# Altium integrated library ON Semi Zener Diodes.IntLib: 1366 symbols (part 10 of 29)
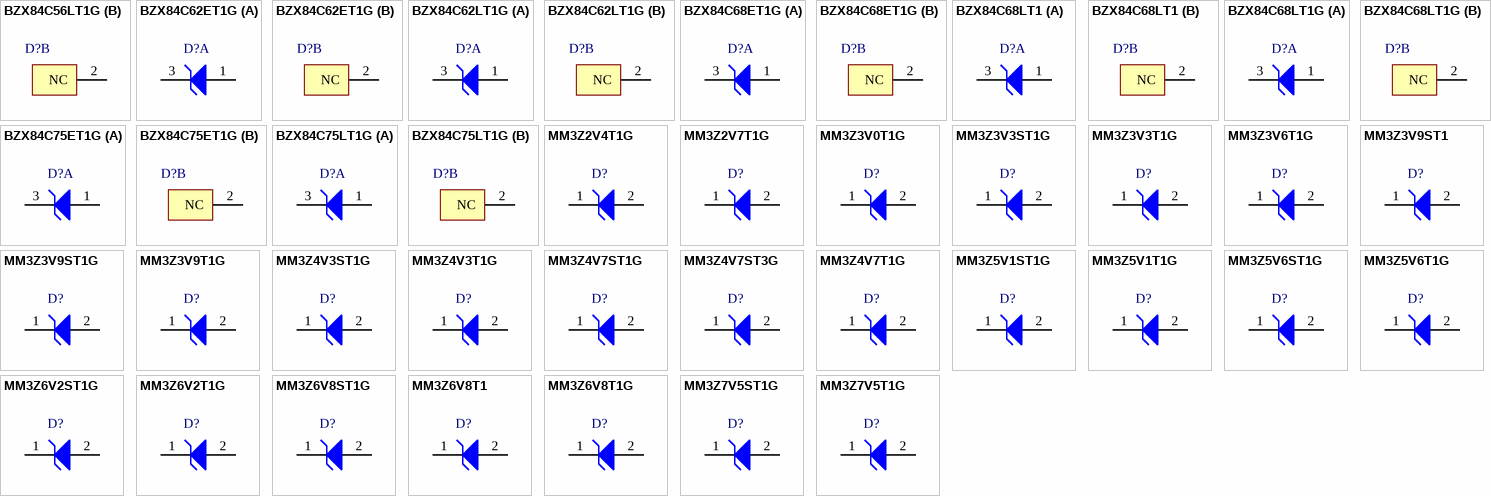
[diagram p53: symbols BZX84C56LT1G to MM3Z7V5T1G]

## MM3Z3V9T1G
designator D?
Zener Voltage Regulator, 300 mW, 2-Pin SOD-323, Pb-Free, Tape and Reel; Manufacturer: On Semiconductor; PartNumber: MM3Z3V9T1G; P Max (W): 0.3; VZ Typ (V): 3.9; DatasheetVersion: Rev. 9; PackageVersion: Rev. H, 03/2007; PackageReference: SOD-323-2-477-02; PackageDescription: 2-Pin SOD, Body 1.7 x 1.25 mm; Supplier 1: Digi-Key; Supplier Part Number 1: MM3Z3V9T1GOSTR-ND; Supplier 2: Digi-Key; Supplier Part Number 2: MM3Z3V9T1GOSCT-ND; Supplier 3: Digi-Key; Supplier Part Number 3: MM3Z3V9T1GOSDKR-ND; Supplier 4: Farnell; Supplier Part Number 4: 1431200; Supplier 5: Farnell; Supplier Part Number 5: 1431200RL; Supplier 6: Newark; Supplier Part Number 6: 67H6874; Supplier 7: Mouser; Supplier Part Number 7: 863-MM3Z3V9T1G; Packing: Tape and Reel; RoHS: Pb-Free; Mounting Technology: Surface Mount; ComponentLink1Description: Manufacturer URL; ComponentLink1URL: http://www.onsemi.com/; ComponentLink2Description: Datasheet; ComponentLink2URL: http://www.onsemi.cn/pub_link/Collateral/MM3Z2V4T1-D.PDF; ComponentLink3Description: Package Specification; ComponentLink3URL: http://www.onsemi.com/pub_link/Collateral/477-02.PDF.1
footprint ONSC-SOD-323-2-477-02_V (SOD, 2-Leads, Body 1.7x1.25mm)
pins: 1 K, 2 A

## MM3Z4V3ST1G
designator D?
Zener Voltage Regulator, 300 mW, Tight Tolerance Portfolio, 2-Pin SOD-323, Pb-Free, Tape and Reel; Manufacturer: On Semiconductor; PartNumber: MM3Z4V3ST1G; P Max (W): 0.3; DatasheetVersion: Rev. 21; PackageVersion: Rev. H, 03/2007; PackageReference: SOD-323-2-477-02; PackageDescription: 2-Pin SOD, Body 1.7 x 1.25 mm; Supplier 1: Digi-Key; Supplier Part Number 1: MM3Z4V3ST1GOSTR-ND; Supplier 2: Digi-Key; Supplier Part Number 2: MM3Z4V3ST1GOSCT-ND; Supplier 3: Digi-Key; Supplier Part Number 3: MM3Z4V3ST1GOSDKR-ND; Supplier 4: Newark; Supplier Part Number 4: 98H0839; Supplier 5: Mouser; Supplier Part Number 5: 863-MM3Z4V3ST1G; Packing: Tape and Reel; RoHS: Pb-Free; Mounting Technology: Surface Mount; ComponentLink1Description: Manufacturer URL; ComponentLink1URL: http://www.onsemi.com/; ComponentLink2Description: Datasheet; ComponentLink2URL: http://www.onsemi.cn/pub_link/Collateral/MM3Z2V4ST1-D.PDF; ComponentLink3Description: Package Specification; ComponentLink3URL: http://www.onsemi.com/pub_link/Collateral/477-02.PDF.1
footprint ONSC-SOD-323-2-477-02_V (SOD, 2-Leads, Body 1.7x1.25mm)
pins: 1 K, 2 A

## MM3Z4V3T1G
designator D?
Zener Voltage Regulator, 300 mW, 2-Pin SOD-323, Pb-Free, Tape and Reel; Manufacturer: On Semiconductor; PartNumber: MM3Z4V3T1G; P Max (W): 0.3; VZ Typ (V): 4.3; DatasheetVersion: Rev. 9; PackageVersion: Rev. H, 03/2007; PackageReference: SOD-323-2-477-02; PackageDescription: 2-Pin SOD, Body 1.7 x 1.25 mm; Supplier 1: Digi-Key; Supplier Part Number 1: MM3Z4V3T1GOSTR-ND; Supplier 2: Digi-Key; Supplier Part Number 2: MM3Z4V3T1GOSCT-ND; Supplier 3: Digi-Key; Supplier Part Number 3: MM3Z4V3T1GOSDKR-ND; Supplier 4: Farnell; Supplier Part Number 4: 2317754; Supplier 5: Farnell; Supplier Part Number 5: 1155495; Supplier 6: Newark; Supplier Part Number 6: 67H6875; Supplier 7: Newark; Supplier Part Number 7: 85W2828; Supplier 8: Mouser; Supplier Part Number 8: 863-MM3Z4V3T1G; Packing: Tape and Reel; RoHS: Pb-Free; Mounting Technology: Surface Mount; ComponentLink1Description: Manufacturer URL; ComponentLink1URL: http://www.onsemi.com/; ComponentLink2Description: Datasheet; ComponentLink2URL: http://www.onsemi.cn/pub_link/Collateral/MM3Z2V4T1-D.PDF; ComponentLink3Description: Package Specification; ComponentLink3URL: http://www.onsemi.com/pub_link/Collateral/477-02.PDF.1
footprint ONSC-SOD-323-2-477-02_V (SOD, 2-Leads, Body 1.7x1.25mm)
pins: 1 K, 2 A

## MM3Z4V7ST1G
designator D?
Zener Voltage Regulator, 300 mW, Tight Tolerance Portfolio, 2-Pin SOD-323, Pb-Free, Tape and Reel; Manufacturer: On Semiconductor; PartNumber: MM3Z4V7ST1G; P Max (W): 0.3; DatasheetVersion: Rev. 21; PackageVersion: Rev. H, 03/2007; PackageReference: SOD-323-2-477-02; PackageDescription: 2-Pin SOD, Body 1.7 x 1.25 mm; Supplier 1: Digi-Key; Supplier Part Number 1: MM3Z4V7ST1GOSTR-ND; Supplier 2: Digi-Key; Supplier Part Number 2: MM3Z4V7ST1GOSCT-ND; Supplier 3: Digi-Key; Supplier Part Number 3: MM3Z4V7ST1GOSDKR-ND; Supplier 4: Newark; Supplier Part Number 4: 10N9523; Supplier 5: Mouser; Supplier Part Number 5: 863-MM3Z4V7ST1G; Packing: Tape and Reel; RoHS: Pb-Free; Mounting Technology: Surface Mount; ComponentLink1Description: Manufacturer URL; ComponentLink1URL: http://www.onsemi.com/; ComponentLink2Description: Datasheet; ComponentLink2URL: http://www.onsemi.cn/pub_link/Collateral/MM3Z2V4ST1-D.PDF; ComponentLink3Description: Package Specification; ComponentLink3URL: http://www.onsemi.com/pub_link/Collateral/477-02.PDF.1
footprint ONSC-SOD-323-2-477-02_V (SOD, 2-Leads, Body 1.7x1.25mm)
pins: 1 K, 2 A

## MM3Z4V7ST3G
designator D?
Zener Voltage Regulator, 300 mW, Tight Tolerance Portfolio, 2-Pin SOD-323, Pb-Free, Tape and Reel; Manufacturer: On Semiconductor; PartNumber: MM3Z4V7ST3G; P Max (W): 0.3; DatasheetVersion: Rev. 21; PackageVersion: Rev. H, 03/2007; PackageReference: SOD-323-2-477-02; PackageDescription: 2-Pin SOD, Body 1.7 x 1.25 mm; Supplier 1: Digi-Key; Supplier Part Number 1: MM3Z4V7ST3G-ND; Supplier 2: Mouser; Supplier Part Number 2: 863-MM3Z4V7ST3G; Packing: Tape and Reel; RoHS: Pb-Free; Mounting Technology: Surface Mount; ComponentLink1Description: Manufacturer URL; ComponentLink1URL: http://www.onsemi.com/; ComponentLink2Description: Datasheet; ComponentLink2URL: http://www.onsemi.cn/pub_link/Collateral/MM3Z2V4ST1-D.PDF; ComponentLink3Description: Package Specification; ComponentLink3URL: http://www.onsemi.com/pub_link/Collateral/477-02.PDF.1
footprint ONSC-SOD-323-2-477-02_V (SOD, 2-Leads, Body 1.7x1.25mm)
pins: 1 K, 2 A

## MM3Z4V7T1G
designator D?
Zener Voltage Regulator, 300 mW, 2-Pin SOD-323, Pb-Free, Tape and Reel; Manufacturer: On Semiconductor; PartNumber: MM3Z4V7T1G; P Max (W): 0.3; VZ Typ (V): 4.7; DatasheetVersion: Rev. 9; PackageVersion: Rev. H, 03/2007; PackageReference: SOD-323-2-477-02; PackageDescription: 2-Pin SOD, Body 1.7 x 1.25 mm; Supplier 1: Digi-Key; Supplier Part Number 1: MM3Z4V7T1GOSTR-ND; Supplier 2: Digi-Key; Supplier Part Number 2: MM3Z4V7T1GOSCT-ND; Supplier 3: Digi-Key; Supplier Part Number 3: MM3Z4V7T1GOSDKR-ND; Supplier 4: Farnell; Supplier Part Number 4: 1431202; Supplier 5: Farnell; Supplier Part Number 5: 1431202RL; Supplier 6: Farnell; Supplier Part Number 6: 2317740; Supplier 7: Newark; Supplier Part Number 7: 67H6877; Supplier 8: Newark; Supplier Part Number 8: 85W2829; Supplier 9: Mouser; Supplier Part Number 9: 863-MM3Z4V7T1G; Packing: Tape and Reel; RoHS: Pb-Free; Mounting Technology: Surface Mount; ComponentLink1Description: Manufacturer URL; ComponentLink1URL: http://www.onsemi.com/; ComponentLink2Description: Datasheet; ComponentLink2URL: http://www.onsemi.cn/pub_link/Collateral/MM3Z2V4T1-D.PDF; ComponentLink3Description: Package Specification; ComponentLink3URL: http://www.onsemi.com/pub_link/Collateral/477-02.PDF.1
footprint ONSC-SOD-323-2-477-02_V (SOD, 2-Leads, Body 1.7x1.25mm)
pins: 1 K, 2 A

## MM3Z5V1ST1G
designator D?
Zener Voltage Regulator, 300 mW, Tight Tolerance Portfolio, 2-Pin SOD-323, Pb-Free, Tape and Reel; Manufacturer: On Semiconductor; PartNumber: MM3Z5V1ST1G; P Max (W): 0.3; DatasheetVersion: Rev. 21; PackageVersion: Rev. H, 03/2007; PackageReference: SOD-323-2-477-02; PackageDescription: 2-Pin SOD, Body 1.7 x 1.25 mm; Supplier 1: Digi-Key; Supplier Part Number 1: MM3Z5V1ST1GOSTR-ND; Supplier 2: Digi-Key; Supplier Part Number 2: MM3Z5V1ST1GOSCT-ND; Supplier 3: Digi-Key; Supplier Part Number 3: MM3Z5V1ST1GOSDKR-ND; Supplier 4: Farnell; Supplier Part Number 4: 2317757; Supplier 5: Farnell; Supplier Part Number 5: 2317476; Supplier 6: Newark; Supplier Part Number 6: 10N9524; Supplier 7: Newark; Supplier Part Number 7: 67H6878; Supplier 8: Mouser; Supplier Part Number 8: 863-MM3Z5V1ST1G; Packing: Tape and Reel; RoHS: Pb-Free; Mounting Technology: Surface Mount; ComponentLink1Description: Manufacturer URL; ComponentLink1URL: http://www.onsemi.com/; ComponentLink2Description: Datasheet; ComponentLink2URL: http://www.onsemi.cn/pub_link/Collateral/MM3Z2V4ST1-D.PDF; ComponentLink3Description: Package Specification; ComponentLink3URL: http://www.onsemi.com/pub_link/Collateral/477-02.PDF.1
footprint ONSC-SOD-323-2-477-02_V (SOD, 2-Leads, Body 1.7x1.25mm)
pins: 1 K, 2 A

## MM3Z5V1T1G
designator D?
Zener Voltage Regulator, 300 mW, 2-Pin SOD-323, Pb-Free, Tape and Reel; Manufacturer: On Semiconductor; PartNumber: MM3Z5V1T1G; P Max (W): 0.3; VZ Typ (V): 5.1; DatasheetVersion: Rev. 9; PackageVersion: Rev. H, 03/2007; PackageReference: SOD-323-2-477-02; PackageDescription: 2-Pin SOD, Body 1.7 x 1.25 mm; Supplier 1: Digi-Key; Supplier Part Number 1: MM3Z5V1T1GOSTR-ND; Supplier 2: Digi-Key; Supplier Part Number 2: MM3Z5V1T1GOSCT-ND; Supplier 3: Digi-Key; Supplier Part Number 3: MM3Z5V1T1GOSDKR-ND; Supplier 4: Farnell; Supplier Part Number 4: 1431203; Supplier 5: Farnell; Supplier Part Number 5: 2317719; Supplier 6: Farnell; Supplier Part Number 6: 1431203RL; Supplier 7: Newark; Supplier Part Number 7: 67H6879; Supplier 8: Newark; Supplier Part Number 8: 85W2830; Supplier 9: Mouser; Supplier Part Number 9: 863-MM3Z5V1T1G; Packing: Tape and Reel; RoHS: Pb-Free; Mounting Technology: Surface Mount; ComponentLink1Description: Manufacturer URL; ComponentLink1URL: http://www.onsemi.com/; ComponentLink2Description: Datasheet; ComponentLink2URL: http://www.onsemi.cn/pub_link/Collateral/MM3Z2V4T1-D.PDF; ComponentLink3Description: Package Specification; ComponentLink3URL: http://www.onsemi.com/pub_link/Collateral/477-02.PDF.1
footprint ONSC-SOD-323-2-477-02_V (SOD, 2-Leads, Body 1.7x1.25mm)
pins: 1 K, 2 A

## MM3Z5V6ST1G
designator D?
Zener Voltage Regulator, 300 mW, Tight Tolerance Portfolio, 2-Pin SOD-323, Pb-Free, Tape and Reel; Manufacturer: On Semiconductor; PartNumber: MM3Z5V6ST1G; P Max (W): 0.3; DatasheetVersion: Rev. 21; PackageVersion: Rev. H, 03/2007; PackageReference: SOD-323-2-477-02; PackageDescription: 2-Pin SOD, Body 1.7 x 1.25 mm; Supplier 1: Digi-Key; Supplier Part Number 1: MM3Z5V6ST1GOSTR-ND; Supplier 2: Digi-Key; Supplier Part Number 2: MM3Z5V6ST1GOSCT-ND; Supplier 3: Digi-Key; Supplier Part Number 3: MM3Z5V6ST1GOSDKR-ND; Supplier 4: Farnell; Supplier Part Number 4: 2317738; Supplier 5: Newark; Supplier Part Number 5: 67H6880; Supplier 6: Newark; Supplier Part Number 6: 94W9058; Supplier 7: Newark; Supplier Part Number 7: 10N9525; Supplier 8: Mouser; Supplier Part Number 8: 863-MM3Z5V6ST1G; Packing: Tape and Reel; RoHS: Pb-Free; Mounting Technology: Surface Mount; ComponentLink1Description: Manufacturer URL; ComponentLink1URL: http://www.onsemi.com/; ComponentLink2Description: Datasheet; ComponentLink2URL: http://www.onsemi.cn/pub_link/Collateral/MM3Z2V4ST1-D.PDF; ComponentLink3Description: Package Specification; ComponentLink3URL: http://www.onsemi.com/pub_link/Collateral/477-02.PDF.1
footprint ONSC-SOD-323-2-477-02_V (SOD, 2-Leads, Body 1.7x1.25mm)
pins: 1 K, 2 A

## MM3Z5V6T1G
designator D?
Zener Voltage Regulator, 300 mW, 2-Pin SOD-323, Pb-Free, Tape and Reel; Manufacturer: On Semiconductor; PartNumber: MM3Z5V6T1G; P Max (W): 0.3; VZ Typ (V): 5.6; DatasheetVersion: Rev. 9; PackageVersion: Rev. H, 03/2007; PackageReference: SOD-323-2-477-02; PackageDescription: 2-Pin SOD, Body 1.7 x 1.25 mm; Supplier 1: Digi-Key; Supplier Part Number 1: MM3Z5V6T1GOSTR-ND; Supplier 2: Digi-Key; Supplier Part Number 2: MM3Z5V6T1GOSCT-ND; Supplier 3: Digi-Key; Supplier Part Number 3: MM3Z5V6T1GOSDKR-ND; Supplier 4: Farnell; Supplier Part Number 4: 1431204RL; Supplier 5: Farnell; Supplier Part Number 5: 1431204; Supplier 6: Farnell; Supplier Part Number 6: 2317724; Supplier 7: Newark; Supplier Part Number 7: 83H7525; Supplier 8: Newark; Supplier Part Number 8: 85W2831; Supplier 9: Mouser; Supplier Part Number 9: 863-MM3Z5V6T1G; Packing: Tape and Reel; RoHS: Pb-Free; Mounting Technology: Surface Mount; ComponentLink1Description: Manufacturer URL; ComponentLink1URL: http://www.onsemi.com/; ComponentLink2Description: Datasheet; ComponentLink2URL: http://www.onsemi.cn/pub_link/Collateral/MM3Z2V4T1-D.PDF; ComponentLink3Description: Package Specification; ComponentLink3URL: http://www.onsemi.com/pub_link/Collateral/477-02.PDF.1
footprint ONSC-SOD-323-2-477-02_V (SOD, 2-Leads, Body 1.7x1.25mm)
pins: 1 K, 2 A

## MM3Z6V2ST1G
designator D?
Zener Voltage Regulator, 300 mW, Tight Tolerance Portfolio, 2-Pin SOD-323, Pb-Free, Tape and Reel; Manufacturer: On Semiconductor; PartNumber: MM3Z6V2ST1G; P Max (W): 0.3; DatasheetVersion: Rev. 21; PackageVersion: Rev. H, 03/2007; PackageReference: SOD-323-2-477-02; PackageDescription: 2-Pin SOD, Body 1.7 x 1.25 mm; Supplier 1: Digi-Key; Supplier Part Number 1: MM3Z6V2ST1GOSTR-ND; Supplier 2: Digi-Key; Supplier Part Number 2: MM3Z6V2ST1GOSCT-ND; Supplier 3: Digi-Key; Supplier Part Number 3: MM3Z6V2ST1GOSDKR-ND; Supplier 4: Farnell; Supplier Part Number 4: 2317455; Supplier 5: Farnell; Supplier Part Number 5: 2317742; Supplier 6: Newark; Supplier Part Number 6: 67H6881; Supplier 7: Newark; Supplier Part Number 7: 09R9508; Supplier 8: Mouser; Supplier Part Number 8: 863-MM3Z6V2ST1G; Packing: Tape and Reel; RoHS: Pb-Free; Mounting Technology: Surface Mount; ComponentLink1Description: Manufacturer URL; ComponentLink1URL: http://www.onsemi.com/; ComponentLink2Description: Datasheet; ComponentLink2URL: http://www.onsemi.cn/pub_link/Collateral/MM3Z2V4ST1-D.PDF; ComponentLink3Description: Package Specification; ComponentLink3URL: http://www.onsemi.com/pub_link/Collateral/477-02.PDF.1
footprint ONSC-SOD-323-2-477-02_V (SOD, 2-Leads, Body 1.7x1.25mm)
pins: 1 K, 2 A

## MM3Z6V2T1G
designator D?
Zener Voltage Regulator, 300 mW, 2-Pin SOD-323, Pb-Free, Tape and Reel; Manufacturer: On Semiconductor; PartNumber: MM3Z6V2T1G; P Max (W): 0.3; VZ Typ (V): 6.2; DatasheetVersion: Rev. 9; PackageVersion: Rev. H, 03/2007; PackageReference: SOD-323-2-477-02; PackageDescription: 2-Pin SOD, Body 1.7 x 1.25 mm; Supplier 1: Digi-Key; Supplier Part Number 1: MM3Z6V2T1GOSTR-ND; Supplier 2: Digi-Key; Supplier Part Number 2: MM3Z6V2T1GOSCT-ND; Supplier 3: Digi-Key; Supplier Part Number 3: MM3Z6V2T1GOSDKR-ND; Supplier 4: Farnell; Supplier Part Number 4: 1431205; Supplier 5: Farnell; Supplier Part Number 5: 1431205RL; Supplier 6: Newark; Supplier Part Number 6: 58M9259; Supplier 7: Newark; Supplier Part Number 7: 83H7526; Supplier 8: Mouser; Supplier Part Number 8: 863-MM3Z6V2T1G; Packing: Tape and Reel; RoHS: Pb-Free; Mounting Technology: Surface Mount; ComponentLink1Description: Manufacturer URL; ComponentLink1URL: http://www.onsemi.com/; ComponentLink2Description: Datasheet; ComponentLink2URL: http://www.onsemi.cn/pub_link/Collateral/MM3Z2V4T1-D.PDF; ComponentLink3Description: Package Specification; ComponentLink3URL: http://www.onsemi.com/pub_link/Collateral/477-02.PDF.1
footprint ONSC-SOD-323-2-477-02_V (SOD, 2-Leads, Body 1.7x1.25mm)
pins: 1 K, 2 A

## MM3Z6V8ST1G
designator D?
Zener Voltage Regulator, 300 mW, Tight Tolerance Portfolio, 2-Pin SOD-323, Pb-Free, Tape and Reel; Manufacturer: On Semiconductor; PartNumber: MM3Z6V8ST1G; P Max (W): 0.3; DatasheetVersion: Rev. 21; PackageVersion: Rev. H, 03/2007; PackageReference: SOD-323-2-477-02; PackageDescription: 2-Pin SOD, Body 1.7 x 1.25 mm; Supplier 1: Digi-Key; Supplier Part Number 1: MM3Z6V8ST1GOSTR-ND; Supplier 2: Digi-Key; Supplier Part Number 2: MM3Z6V8ST1GOSCT-ND; Supplier 3: Digi-Key; Supplier Part Number 3: MM3Z6V8ST1GOSDKR-ND; Supplier 4: Newark; Supplier Part Number 4: 10N9526; Supplier 5: Mouser; Supplier Part Number 5: 863-MM3Z6V8ST1G; Packing: Tape and Reel; RoHS: Pb-Free; Mounting Technology: Surface Mount; ComponentLink1Description: Manufacturer URL; ComponentLink1URL: http://www.onsemi.com/; ComponentLink2Description: Datasheet; ComponentLink2URL: http://www.onsemi.cn/pub_link/Collateral/MM3Z2V4ST1-D.PDF; ComponentLink3Description: Package Specification; ComponentLink3URL: http://www.onsemi.com/pub_link/Collateral/477-02.PDF.1
footprint ONSC-SOD-323-2-477-02_V (SOD, 2-Leads, Body 1.7x1.25mm)
pins: 1 K, 2 A

## MM3Z6V8T1
designator D?
Zener Voltage Regulator, 300 mW, 2-Pin SOD-323, Tape and Reel; Manufacturer: On Semiconductor; PartNumber: MM3Z6V8T1; P Max (W): 0.3; VZ Typ (V): 6.8; DatasheetVersion: Rev. 9; PackageVersion: Rev. H, 03/2007; PackageReference: SOD-323-2-477-02; PackageDescription: 2-Pin SOD, Body 1.7 x 1.25 mm; Packing: Tape and Reel; Mounting Technology: Surface Mount; ComponentLink1Description: Manufacturer URL; ComponentLink1URL: http://www.onsemi.com/; ComponentLink2Description: Datasheet; ComponentLink2URL: http://www.onsemi.cn/pub_link/Collateral/MM3Z2V4T1-D.PDF; ComponentLink3Description: Package Specification; ComponentLink3URL: http://www.onsemi.com/pub_link/Collateral/477-02.PDF.1
footprint ONSC-SOD-323-2-477-02_V (SOD, 2-Leads, Body 1.7x1.25mm)
pins: 1 K, 2 A

## MM3Z6V8T1G
designator D?
Zener Voltage Regulator, 300 mW, 2-Pin SOD-323, Pb-Free, Tape and Reel; Manufacturer: On Semiconductor; PartNumber: MM3Z6V8T1G; P Max (W): 0.3; VZ Typ (V): 6.8; DatasheetVersion: Rev. 9; PackageVersion: Rev. H, 03/2007; PackageReference: SOD-323-2-477-02; PackageDescription: 2-Pin SOD, Body 1.7 x 1.25 mm; Supplier 1: Digi-Key; Supplier Part Number 1: MM3Z6V8T1GOSTR-ND; Supplier 2: Digi-Key; Supplier Part Number 2: MM3Z6V8T1GOSCT-ND; Supplier 3: Digi-Key; Supplier Part Number 3: MM3Z6V8T1GOSDKR-ND; Supplier 4: Farnell; Supplier Part Number 4: 1431206; Supplier 5: Farnell; Supplier Part Number 5: 1431206RL; Supplier 6: Newark; Supplier Part Number 6: 67H6883; Supplier 7: Mouser; Supplier Part Number 7: 863-MM3Z6V8T1G; Packing: Tape and Reel; RoHS: Pb-Free; Mounting Technology: Surface Mount; ComponentLink1Description: Manufacturer URL; ComponentLink1URL: http://www.onsemi.com/; ComponentLink2Description: Datasheet; ComponentLink2URL: http://www.onsemi.cn/pub_link/Collateral/MM3Z2V4T1-D.PDF; ComponentLink3Description: Package Specification; ComponentLink3URL: http://www.onsemi.com/pub_link/Collateral/477-02.PDF.1
footprint ONSC-SOD-323-2-477-02_V (SOD, 2-Leads, Body 1.7x1.25mm)
pins: 1 K, 2 A

## MM3Z7V5ST1G
designator D?
Zener Voltage Regulator, 300 mW, Tight Tolerance Portfolio, 2-Pin SOD-323, Pb-Free, Tape and Reel; Manufacturer: On Semiconductor; PartNumber: MM3Z7V5ST1G; P Max (W): 0.3; DatasheetVersion: Rev. 21; PackageVersion: Rev. H, 03/2007; PackageReference: SOD-323-2-477-02; PackageDescription: 2-Pin SOD, Body 1.7 x 1.25 mm; Supplier 1: Digi-Key; Supplier Part Number 1: MM3Z7V5ST1GOSTR-ND; Supplier 2: Digi-Key; Supplier Part Number 2: MM3Z7V5ST1GOSCT-ND; Supplier 3: Digi-Key; Supplier Part Number 3: MM3Z7V5ST1GOSDKR-ND; Supplier 4: Newark; Supplier Part Number 4: 67H6884; Supplier 5: Mouser; Supplier Part Number 5: 863-MM3Z7V5ST1G; Packing: Tape and Reel; RoHS: Pb-Free; Mounting Technology: Surface Mount; ComponentLink1Description: Manufacturer URL; ComponentLink1URL: http://www.onsemi.com/; ComponentLink2Description: Datasheet; ComponentLink2URL: http://www.onsemi.cn/pub_link/Collateral/MM3Z2V4ST1-D.PDF; ComponentLink3Description: Package Specification; ComponentLink3URL: http://www.onsemi.com/pub_link/Collateral/477-02.PDF.1
footprint ONSC-SOD-323-2-477-02_V (SOD, 2-Leads, Body 1.7x1.25mm)
pins: 1 K, 2 A

## MM3Z7V5T1G
designator D?
Zener Voltage Regulator, 300 mW, 2-Pin SOD-323, Pb-Free, Tape and Reel; Manufacturer: On Semiconductor; PartNumber: MM3Z7V5T1G; P Max (W): 0.3; VZ Typ (V): 7.5; DatasheetVersion: Rev. 9; PackageVersion: Rev. H, 03/2007; PackageReference: SOD-323-2-477-02; PackageDescription: 2-Pin SOD, Body 1.7 x 1.25 mm; Supplier 1: Digi-Key; Supplier Part Number 1: MM3Z7V5T1GOSTR-ND; Supplier 2: Digi-Key; Supplier Part Number 2: MM3Z7V5T1GOSCT-ND; Supplier 3: Digi-Key; Supplier Part Number 3: MM3Z7V5T1GOSDKR-ND; Supplier 4: Farnell; Supplier Part Number 4: 1431207RL; Supplier 5: Farnell; Supplier Part Number 5: 1431207; Supplier 6: Newark; Supplier Part Number 6: 09R9509; Supplier 7: Newark; Supplier Part Number 7: 98H0840; Supplier 8: Mouser; Supplier Part Number 8: 863-MM3Z7V5T1G; Packing: Tape and Reel; RoHS: Pb-Free; Mounting Technology: Surface Mount; ComponentLink1Description: Manufacturer URL; ComponentLink1URL: http://www.onsemi.com/; ComponentLink2Description: Datasheet; ComponentLink2URL: http://www.onsemi.cn/pub_link/Collateral/MM3Z2V4T1-D.PDF; ComponentLink3Description: Package Specification; ComponentLink3URL: http://www.onsemi.com/pub_link/Collateral/477-02.PDF.1
footprint ONSC-SOD-323-2-477-02_V (SOD, 2-Leads, Body 1.7x1.25mm)
pins: 1 K, 2 A

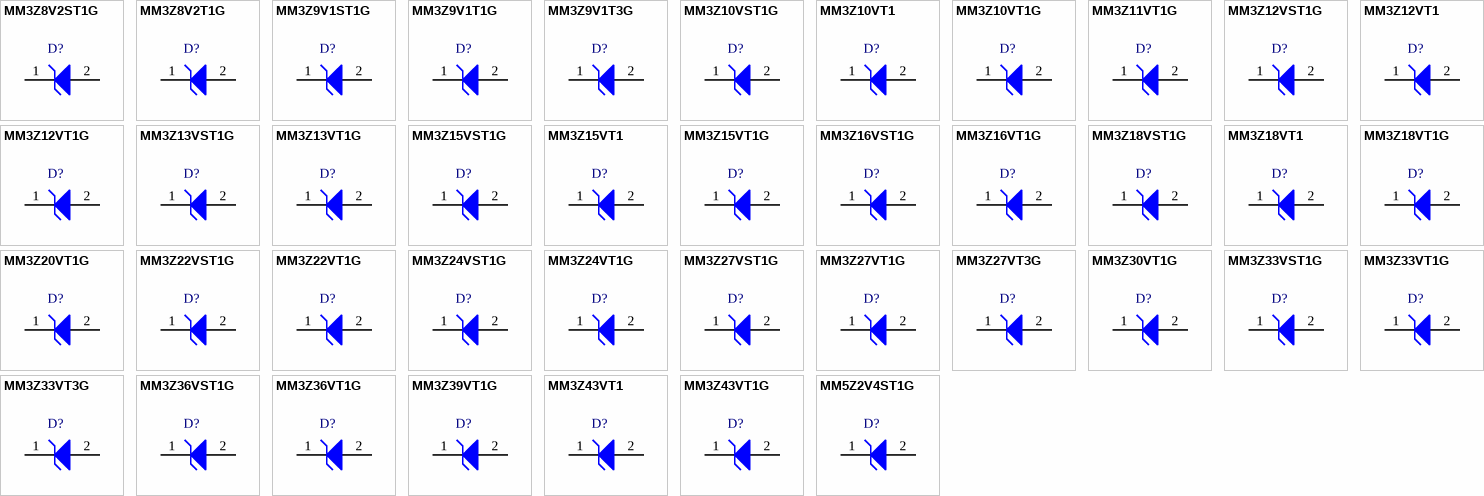
[diagram p14: symbols MM3Z8V2ST1G to MM5Z2V4ST1G]

## MM3Z8V2ST1G
designator D?
Zener Voltage Regulator, 300 mW, Tight Tolerance Portfolio, 2-Pin SOD-323, Pb-Free, Tape and Reel; Manufacturer: On Semiconductor; PartNumber: MM3Z8V2ST1G; P Max (W): 0.3; DatasheetVersion: Rev. 21; PackageVersion: Rev. H, 03/2007; PackageReference: SOD-323-2-477-02; PackageDescription: 2-Pin SOD, Body 1.7 x 1.25 mm; Supplier 1: Digi-Key; Supplier Part Number 1: MM3Z8V2ST1GOSTR-ND; Supplier 2: Digi-Key; Supplier Part Number 2: MM3Z8V2ST1GOSCT-ND; Supplier 3: Digi-Key; Supplier Part Number 3: MM3Z8V2ST1GOSDKR-ND; Supplier 4: Farnell; Supplier Part Number 4: 2317803; Supplier 5: Newark; Supplier Part Number 5: 67H6885; Supplier 6: Newark; Supplier Part Number 6: 09R9510; Supplier 7: Mouser; Supplier Part Number 7: 863-MM3Z8V2ST1G; Packing: Tape and Reel; RoHS: Pb-Free; Mounting Technology: Surface Mount; ComponentLink1Description: Manufacturer URL; ComponentLink1URL: http://www.onsemi.com/; ComponentLink2Description: Datasheet; ComponentLink2URL: http://www.onsemi.cn/pub_link/Collateral/MM3Z2V4ST1-D.PDF; ComponentLink3Description: Package Specification; ComponentLink3URL: http://www.onsemi.com/pub_link/Collateral/477-02.PDF.1
footprint ONSC-SOD-323-2-477-02_V (SOD, 2-Leads, Body 1.7x1.25mm)
pins: 1 K, 2 A

## MM3Z8V2T1G
designator D?
Zener Voltage Regulator, 300 mW, 2-Pin SOD-323, Pb-Free, Tape and Reel; Manufacturer: On Semiconductor; PartNumber: MM3Z8V2T1G; P Max (W): 0.3; VZ Typ (V): 8.2; DatasheetVersion: Rev. 9; PackageVersion: Rev. H, 03/2007; PackageReference: SOD-323-2-477-02; PackageDescription: 2-Pin SOD, Body 1.7 x 1.25 mm; Supplier 1: Digi-Key; Supplier Part Number 1: MM3Z8V2T1GOSTR-ND; Supplier 2: Digi-Key; Supplier Part Number 2: MM3Z8V2T1GOSCT-ND; Supplier 3: Digi-Key; Supplier Part Number 3: MM3Z8V2T1GOSDKR-ND; Supplier 4: Farnell; Supplier Part Number 4: 1431208RL; Supplier 5: Newark; Supplier Part Number 5: 45J1636; Supplier 6: Mouser; Supplier Part Number 6: 863-MM3Z8V2T1G; Packing: Tape and Reel; RoHS: Pb-Free; Mounting Technology: Surface Mount; ComponentLink1Description: Manufacturer URL; ComponentLink1URL: http://www.onsemi.com/; ComponentLink2Description: Datasheet; ComponentLink2URL: http://www.onsemi.cn/pub_link/Collateral/MM3Z2V4T1-D.PDF; ComponentLink3Description: Package Specification; ComponentLink3URL: http://www.onsemi.com/pub_link/Collateral/477-02.PDF.1
footprint ONSC-SOD-323-2-477-02_V (SOD, 2-Leads, Body 1.7x1.25mm)
pins: 1 K, 2 A

## MM3Z9V1ST1G
designator D?
Zener Voltage Regulator, 300 mW, Tight Tolerance Portfolio, 2-Pin SOD-323, Pb-Free, Tape and Reel; Manufacturer: On Semiconductor; PartNumber: MM3Z9V1ST1G; P Max (W): 0.3; DatasheetVersion: Rev. 21; PackageVersion: Rev. H, 03/2007; PackageReference: SOD-323-2-477-02; PackageDescription: 2-Pin SOD, Body 1.7 x 1.25 mm; Supplier 1: Digi-Key; Supplier Part Number 1: MM3Z9V1ST1GOS-ND; Supplier 2: Mouser; Supplier Part Number 2: 863-MM3Z9V1ST1G; Packing: Tape and Reel; RoHS: Pb-Free; Mounting Technology: Surface Mount; ComponentLink1Description: Manufacturer URL; ComponentLink1URL: http://www.onsemi.com/; ComponentLink2Description: Datasheet; ComponentLink2URL: http://www.onsemi.cn/pub_link/Collateral/MM3Z2V4ST1-D.PDF; ComponentLink3Description: Package Specification; ComponentLink3URL: http://www.onsemi.com/pub_link/Collateral/477-02.PDF.1
footprint ONSC-SOD-323-2-477-02_V (SOD, 2-Leads, Body 1.7x1.25mm)
pins: 1 K, 2 A

## MM3Z9V1T1G
designator D?
Zener Voltage Regulator, 300 mW, 2-Pin SOD-323, Pb-Free, Tape and Reel; Manufacturer: On Semiconductor; PartNumber: MM3Z9V1T1G; P Max (W): 0.3; VZ Typ (V): 9.1; DatasheetVersion: Rev. 9; PackageVersion: Rev. H, 03/2007; PackageReference: SOD-323-2-477-02; PackageDescription: 2-Pin SOD, Body 1.7 x 1.25 mm; Supplier 1: Digi-Key; Supplier Part Number 1: MM3Z9V1T1GOSTR-ND; Supplier 2: Digi-Key; Supplier Part Number 2: MM3Z9V1T1GOSCT-ND; Supplier 3: Digi-Key; Supplier Part Number 3: MM3Z9V1T1GOSDKR-ND; Supplier 4: Farnell; Supplier Part Number 4: 1150496; Supplier 5: Newark; Supplier Part Number 5: 45J1637; Supplier 6: Mouser; Supplier Part Number 6: 863-MM3Z9V1T1G; Packing: Tape and Reel; RoHS: Pb-Free; Mounting Technology: Surface Mount; ComponentLink1Description: Manufacturer URL; ComponentLink1URL: http://www.onsemi.com/; ComponentLink2Description: Datasheet; ComponentLink2URL: http://www.onsemi.cn/pub_link/Collateral/MM3Z2V4T1-D.PDF; ComponentLink3Description: Package Specification; ComponentLink3URL: http://www.onsemi.com/pub_link/Collateral/477-02.PDF.1
footprint ONSC-SOD-323-2-477-02_V (SOD, 2-Leads, Body 1.7x1.25mm)
pins: 1 K, 2 A

## MM3Z9V1T3G
designator D?
Zener Voltage Regulator, 300 mW, 2-Pin SOD-323, Pb-Free, Tape and Reel; Manufacturer: On Semiconductor; PartNumber: MM3Z9V1T3G; P Max (W): 0.3; VZ Typ (V): 9.1; DatasheetVersion: Rev. 9; PackageVersion: Rev. H, 03/2007; PackageReference: SOD-323-2-477-02; PackageDescription: 2-Pin SOD, Body 1.7 x 1.25 mm; Supplier 1: Newark; Supplier Part Number 1: 72W2906; Supplier 2: Mouser; Supplier Part Number 2: 863-MM3Z9V1T3G; Packing: Tape and Reel; RoHS: Pb-Free; Mounting Technology: Surface Mount; ComponentLink1Description: Manufacturer URL; ComponentLink1URL: http://www.onsemi.com/; ComponentLink2Description: Datasheet; ComponentLink2URL: http://www.onsemi.cn/pub_link/Collateral/MM3Z2V4T1-D.PDF; ComponentLink3Description: Package Specification; ComponentLink3URL: http://www.onsemi.com/pub_link/Collateral/477-02.PDF.1
footprint ONSC-SOD-323-2-477-02_V (SOD, 2-Leads, Body 1.7x1.25mm)
pins: 1 K, 2 A

## MM3Z10VST1G
designator D?
Zener Voltage Regulator, 300 mW, Tight Tolerance Portfolio, 2-Pin SOD-323, Pb-Free, Tape and Reel; Manufacturer: On Semiconductor; PartNumber: MM3Z10VST1G; P Max (W): 0.3; DatasheetVersion: Rev. 21; PackageVersion: Rev. H, 03/2007; PackageReference: SOD-323-2-477-02; PackageDescription: 2-Pin SOD, Body 1.7 x 1.25 mm; Supplier 1: Digi-Key; Supplier Part Number 1: MM3Z10VST1GOSTR-ND; Supplier 2: Digi-Key; Supplier Part Number 2: MM3Z10VST1GOSCT-ND; Supplier 3: Digi-Key; Supplier Part Number 3: MM3Z10VST1GOSDKR-ND; Supplier 4: Newark; Supplier Part Number 4: 10N9519; Supplier 5: Newark; Supplier Part Number 5: 71J6039; Supplier 6: Mouser; Supplier Part Number 6: 863-MM3Z10VST1G; Packing: Tape and Reel; RoHS: Pb-Free; Mounting Technology: Surface Mount; ComponentLink1Description: Manufacturer URL; ComponentLink1URL: http://www.onsemi.com/; ComponentLink2Description: Datasheet; ComponentLink2URL: http://www.onsemi.cn/pub_link/Collateral/MM3Z2V4ST1-D.PDF; ComponentLink3Description: Package Specification; ComponentLink3URL: http://www.onsemi.com/pub_link/Collateral/477-02.PDF.1
footprint ONSC-SOD-323-2-477-02_V (SOD, 2-Leads, Body 1.7x1.25mm)
pins: 1 K, 2 A

## MM3Z10VT1
designator D?
Zener Voltage Regulator, 300 mW, 2-Pin SOD-323, Tape and Reel; Manufacturer: On Semiconductor; PartNumber: MM3Z10VT1; P Max (W): 0.3; VZ Typ (V): 10; DatasheetVersion: Rev. 9; PackageVersion: Rev. H, 03/2007; PackageReference: SOD-323-2-477-02; PackageDescription: 2-Pin SOD, Body 1.7 x 1.25 mm; Supplier 1: Digi-Key; Supplier Part Number 1: MM3Z10VT1OSCT-ND; Packing: Tape and Reel; Mounting Technology: Surface Mount; ComponentLink1Description: Manufacturer URL; ComponentLink1URL: http://www.onsemi.com/; ComponentLink2Description: Datasheet; ComponentLink2URL: http://www.onsemi.cn/pub_link/Collateral/MM3Z2V4T1-D.PDF; ComponentLink3Description: Package Specification; ComponentLink3URL: http://www.onsemi.com/pub_link/Collateral/477-02.PDF.1
footprint ONSC-SOD-323-2-477-02_V (SOD, 2-Leads, Body 1.7x1.25mm)
pins: 1 K, 2 A

## MM3Z10VT1G
designator D?
Zener Voltage Regulator, 300 mW, 2-Pin SOD-323, Pb-Free, Tape and Reel; Manufacturer: On Semiconductor; PartNumber: MM3Z10VT1G; P Max (W): 0.3; VZ Typ (V): 10; DatasheetVersion: Rev. 9; PackageVersion: Rev. H, 03/2007; PackageReference: SOD-323-2-477-02; PackageDescription: 2-Pin SOD, Body 1.7 x 1.25 mm; Supplier 1: Digi-Key; Supplier Part Number 1: MM3Z10VT1GOSTR-ND; Supplier 2: Digi-Key; Supplier Part Number 2: MM3Z10VT1GOSCT-ND; Supplier 3: Digi-Key; Supplier Part Number 3: MM3Z10VT1GOSDKR-ND; Supplier 4: Farnell; Supplier Part Number 4: 1431190RL; Supplier 5: Farnell; Supplier Part Number 5: 1431190; Supplier 6: Newark; Supplier Part Number 6: 67H6860; Supplier 7: Mouser; Supplier Part Number 7: 863-MM3Z10VT1G; Packing: Tape and Reel; RoHS: Pb-Free; Mounting Technology: Surface Mount; ComponentLink1Description: Manufacturer URL; ComponentLink1URL: http://www.onsemi.com/; ComponentLink2Description: Datasheet; ComponentLink2URL: http://www.onsemi.cn/pub_link/Collateral/MM3Z2V4T1-D.PDF; ComponentLink3Description: Package Specification; ComponentLink3URL: http://www.onsemi.com/pub_link/Collateral/477-02.PDF.1
footprint ONSC-SOD-323-2-477-02_V (SOD, 2-Leads, Body 1.7x1.25mm)
pins: 1 K, 2 A

## MM3Z11VT1G
designator D?
Zener Voltage Regulator, 300 mW, 2-Pin SOD-323, Pb-Free, Tape and Reel; Manufacturer: On Semiconductor; PartNumber: MM3Z11VT1G; P Max (W): 0.3; VZ Typ (V): 11; DatasheetVersion: Rev. 9; PackageVersion: Rev. H, 03/2007; PackageReference: SOD-323-2-477-02; PackageDescription: 2-Pin SOD, Body 1.7 x 1.25 mm; Supplier 1: Digi-Key; Supplier Part Number 1: MM3Z11VT1GOSTR-ND; Supplier 2: Digi-Key; Supplier Part Number 2: MM3Z11VT1GOSCT-ND; Supplier 3: Digi-Key; Supplier Part Number 3: MM3Z11VT1GOSDKR-ND; Supplier 4: Newark; Supplier Part Number 4: 98H0832; Supplier 5: Mouser; Supplier Part Number 5: 863-MM3Z11VT1G; Packing: Tape and Reel; RoHS: Pb-Free; Mounting Technology: Surface Mount; ComponentLink1Description: Manufacturer URL; ComponentLink1URL: http://www.onsemi.com/; ComponentLink2Description: Datasheet; ComponentLink2URL: http://www.onsemi.cn/pub_link/Collateral/MM3Z2V4T1-D.PDF; ComponentLink3Description: Package Specification; ComponentLink3URL: http://www.onsemi.com/pub_link/Collateral/477-02.PDF.1
footprint ONSC-SOD-323-2-477-02_V (SOD, 2-Leads, Body 1.7x1.25mm)
pins: 1 K, 2 A

## MM3Z12VST1G
designator D?
Zener Voltage Regulator, 300 mW, Tight Tolerance Portfolio, 2-Pin SOD-323, Pb-Free, Tape and Reel; Manufacturer: On Semiconductor; PartNumber: MM3Z12VST1G; P Max (W): 0.3; DatasheetVersion: Rev. 21; PackageVersion: Rev. H, 03/2007; PackageReference: SOD-323-2-477-02; PackageDescription: 2-Pin SOD, Body 1.7 x 1.25 mm; Supplier 1: Digi-Key; Supplier Part Number 1: MM3Z12VST1GOSTR-ND; Supplier 2: Digi-Key; Supplier Part Number 2: MM3Z12VST1GOSCT-ND; Supplier 3: Digi-Key; Supplier Part Number 3: MM3Z12VST1GOSDKR-ND; Supplier 4: Farnell; Supplier Part Number 4: 2317739; Supplier 5: Newark; Supplier Part Number 5: 67H6861; Supplier 6: Newark; Supplier Part Number 6: 10N9520; Supplier 7: Mouser; Supplier Part Number 7: 863-MM3Z12VST1G; Packing: Tape and Reel; RoHS: Pb-Free; Mounting Technology: Surface Mount; ComponentLink1Description: Manufacturer URL; ComponentLink1URL: http://www.onsemi.com/; ComponentLink2Description: Datasheet; ComponentLink2URL: http://www.onsemi.cn/pub_link/Collateral/MM3Z2V4ST1-D.PDF; ComponentLink3Description: Package Specification; ComponentLink3URL: http://www.onsemi.com/pub_link/Collateral/477-02.PDF.1
footprint ONSC-SOD-323-2-477-02_V (SOD, 2-Leads, Body 1.7x1.25mm)
pins: 1 K, 2 A

## MM3Z12VT1
designator D?
Zener Voltage Regulator, 300 mW, 2-Pin SOD-323, Tape and Reel; Manufacturer: On Semiconductor; PartNumber: MM3Z12VT1; P Max (W): 0.3; VZ Typ (V): 12; DatasheetVersion: Rev. 9; PackageVersion: Rev. H, 03/2007; PackageReference: SOD-323-2-477-02; PackageDescription: 2-Pin SOD, Body 1.7 x 1.25 mm; Supplier 1: Digi-Key; Supplier Part Number 1: MM3Z12VT1OS-ND; Packing: Tape and Reel; Mounting Technology: Surface Mount; ComponentLink1Description: Manufacturer URL; ComponentLink1URL: http://www.onsemi.com/; ComponentLink2Description: Datasheet; ComponentLink2URL: http://www.onsemi.cn/pub_link/Collateral/MM3Z2V4T1-D.PDF; ComponentLink3Description: Package Specification; ComponentLink3URL: http://www.onsemi.com/pub_link/Collateral/477-02.PDF.1
footprint ONSC-SOD-323-2-477-02_V (SOD, 2-Leads, Body 1.7x1.25mm)
pins: 1 K, 2 A

## MM3Z12VT1G
designator D?
Zener Voltage Regulator, 300 mW, 2-Pin SOD-323, Pb-Free, Tape and Reel; Manufacturer: On Semiconductor; PartNumber: MM3Z12VT1G; P Max (W): 0.3; VZ Typ (V): 12; DatasheetVersion: Rev. 9; PackageVersion: Rev. H, 03/2007; PackageReference: SOD-323-2-477-02; PackageDescription: 2-Pin SOD, Body 1.7 x 1.25 mm; Supplier 1: Digi-Key; Supplier Part Number 1: MM3Z12VT1GOSTR-ND; Supplier 2: Digi-Key; Supplier Part Number 2: MM3Z12VT1GOSCT-ND; Supplier 3: Digi-Key; Supplier Part Number 3: MM3Z12VT1GOSDKR-ND; Supplier 4: Farnell; Supplier Part Number 4: 1431191; Supplier 5: Farnell; Supplier Part Number 5: 1431191RL; Supplier 6: Farnell; Supplier Part Number 6: 2317726; Supplier 7: Newark; Supplier Part Number 7: 85W2823; Supplier 8: Newark; Supplier Part Number 8: 67H6862; Supplier 9: Mouser; Supplier Part Number 9: 863-MM3Z12VT1G; Packing: Tape and Reel; RoHS: Pb-Free; Mounting Technology: Surface Mount; ComponentLink1Description: Manufacturer URL; ComponentLink1URL: http://www.onsemi.com/; ComponentLink2Description: Datasheet; ComponentLink2URL: http://www.onsemi.cn/pub_link/Collateral/MM3Z2V4T1-D.PDF; ComponentLink3Description: Package Specification; ComponentLink3URL: http://www.onsemi.com/pub_link/Collateral/477-02.PDF.1
footprint ONSC-SOD-323-2-477-02_V (SOD, 2-Leads, Body 1.7x1.25mm)
pins: 1 K, 2 A

## MM3Z13VST1G
designator D?
Zener Voltage Regulator, 300 mW, Tight Tolerance Portfolio, 2-Pin SOD-323, Pb-Free, Tape and Reel; Manufacturer: On Semiconductor; PartNumber: MM3Z13VST1G; P Max (W): 0.3; DatasheetVersion: Rev. 21; PackageVersion: Rev. H, 03/2007; PackageReference: SOD-323-2-477-02; PackageDescription: 2-Pin SOD, Body 1.7 x 1.25 mm; Supplier 1: Newark; Supplier Part Number 1: 97W6157; Supplier 2: Mouser; Supplier Part Number 2: 863-MM3Z13VST1G; Packing: Tape and Reel; RoHS: Pb-Free; Mounting Technology: Surface Mount; ComponentLink1Description: Manufacturer URL; ComponentLink1URL: http://www.onsemi.com/; ComponentLink2Description: Datasheet; ComponentLink2URL: http://www.onsemi.cn/pub_link/Collateral/MM3Z2V4ST1-D.PDF; ComponentLink3Description: Package Specification; ComponentLink3URL: http://www.onsemi.com/pub_link/Collateral/477-02.PDF.1
footprint ONSC-SOD-323-2-477-02_V (SOD, 2-Leads, Body 1.7x1.25mm)
pins: 1 K, 2 A

## MM3Z13VT1G
designator D?
Zener Voltage Regulator, 300 mW, Tight Tolerance Portfolio, 2-Pin SOD-323, Pb-Free, Tape and Reel; Manufacturer: On Semiconductor; PartNumber: MM3Z13VT1G; P Max (W): 0.3; VZ Typ (V): 13.25; DatasheetVersion: Rev. 21; PackageVersion: Rev. H, 03/2007; PackageReference: SOD-323-2-477-02; PackageDescription: 2-Pin SOD, Body 1.7 x 1.25 mm; Supplier 1: Digi-Key; Supplier Part Number 1: MM3Z13VT1GOSTR-ND; Supplier 2: Digi-Key; Supplier Part Number 2: MM3Z13VT1GOSCT-ND; Supplier 3: Digi-Key; Supplier Part Number 3: MM3Z13VT1GOSDKR-ND; Supplier 4: Farnell; Supplier Part Number 4: 1332856; Supplier 5: Newark; Supplier Part Number 5: 67H6863; Supplier 6: Mouser; Supplier Part Number 6: 863-MM3Z13VT1G; Packing: Tape and Reel; RoHS: Pb-Free; Mounting Technology: Surface Mount; ComponentLink1Description: Manufacturer URL; ComponentLink1URL: http://www.onsemi.com/; ComponentLink2Description: Datasheet; ComponentLink2URL: http://www.onsemi.cn/pub_link/Collateral/MM3Z2V4ST1-D.PDF; ComponentLink3Description: Package Specification; ComponentLink3URL: http://www.onsemi.com/pub_link/Collateral/477-02.PDF.1
footprint ONSC-SOD-323-2-477-02_V (SOD, 2-Leads, Body 1.7x1.25mm)
pins: 1 K, 2 A

## MM3Z15VST1G
designator D?
Zener Voltage Regulator, 300 mW, Tight Tolerance Portfolio, 2-Pin SOD-323, Pb-Free, Tape and Reel; Manufacturer: On Semiconductor; PartNumber: MM3Z15VST1G; P Max (W): 0.3; DatasheetVersion: Rev. 21; PackageVersion: Rev. H, 03/2007; PackageReference: SOD-323-2-477-02; PackageDescription: 2-Pin SOD, Body 1.7 x 1.25 mm; Supplier 1: Digi-Key; Supplier Part Number 1: MM3Z15VST1GOSTR-ND; Supplier 2: Digi-Key; Supplier Part Number 2: MM3Z15VST1GOSCT-ND; Supplier 3: Digi-Key; Supplier Part Number 3: MM3Z15VST1GOSDKR-ND; Supplier 4: Newark; Supplier Part Number 4: 34M7609; Supplier 5: Mouser; Supplier Part Number 5: 863-MM3Z15VST1G; Packing: Tape and Reel; RoHS: Pb-Free; Mounting Technology: Surface Mount; ComponentLink1Description: Manufacturer URL; ComponentLink1URL: http://www.onsemi.com/; ComponentLink2Description: Datasheet; ComponentLink2URL: http://www.onsemi.cn/pub_link/Collateral/MM3Z2V4ST1-D.PDF; ComponentLink3Description: Package Specification; ComponentLink3URL: http://www.onsemi.com/pub_link/Collateral/477-02.PDF.1
footprint ONSC-SOD-323-2-477-02_V (SOD, 2-Leads, Body 1.7x1.25mm)
pins: 1 K, 2 A

## MM3Z15VT1
designator D?
Zener Voltage Regulator, 300 mW, 2-Pin SOD-323, Tape and Reel; Manufacturer: On Semiconductor; PartNumber: MM3Z15VT1; P Max (W): 0.3; VZ Typ (V): 15; DatasheetVersion: Rev. 9; PackageVersion: Rev. H, 03/2007; PackageReference: SOD-323-2-477-02; PackageDescription: 2-Pin SOD, Body 1.7 x 1.25 mm; Supplier 1: Digi-Key; Supplier Part Number 1: MM3Z15VT1OSTR-ND; Supplier 2: Digi-Key; Supplier Part Number 2: MM3Z15VT1OSCT-ND; Packing: Tape and Reel; Mounting Technology: Surface Mount; ComponentLink1Description: Manufacturer URL; ComponentLink1URL: http://www.onsemi.com/; ComponentLink2Description: Datasheet; ComponentLink2URL: http://www.onsemi.cn/pub_link/Collateral/MM3Z2V4T1-D.PDF; ComponentLink3Description: Package Specification; ComponentLink3URL: http://www.onsemi.com/pub_link/Collateral/477-02.PDF.1
footprint ONSC-SOD-323-2-477-02_V (SOD, 2-Leads, Body 1.7x1.25mm)
pins: 1 K, 2 A

## MM3Z15VT1G
designator D?
Zener Voltage Regulator, 300 mW, 2-Pin SOD-323, Pb-Free, Tape and Reel; Manufacturer: On Semiconductor; PartNumber: MM3Z15VT1G; P Max (W): 0.3; VZ Typ (V): 15; DatasheetVersion: Rev. 9; PackageVersion: Rev. H, 03/2007; PackageReference: SOD-323-2-477-02; PackageDescription: 2-Pin SOD, Body 1.7 x 1.25 mm; Supplier 1: Digi-Key; Supplier Part Number 1: MM3Z15VT1GOSTR-ND; Supplier 2: Digi-Key; Supplier Part Number 2: MM3Z15VT1GOSCT-ND; Supplier 3: Digi-Key; Supplier Part Number 3: MM3Z15VT1GOSDKR-ND; Supplier 4: Farnell; Supplier Part Number 4: 1431192; Supplier 5: Farnell; Supplier Part Number 5: 1431192RL; Supplier 6: Farnell; Supplier Part Number 6: 2317749; Supplier 7: Newark; Supplier Part Number 7: 67H6864; Supplier 8: Newark; Supplier Part Number 8: 85W2824; Supplier 9: Mouser; Supplier Part Number 9: 863-MM3Z15VT1G; Packing: Tape and Reel; RoHS: Pb-Free; Mounting Technology: Surface Mount; ComponentLink1Description: Manufacturer URL; ComponentLink1URL: http://www.onsemi.com/; ComponentLink2Description: Datasheet; ComponentLink2URL: http://www.onsemi.cn/pub_link/Collateral/MM3Z2V4T1-D.PDF; ComponentLink3Description: Package Specification; ComponentLink3URL: http://www.onsemi.com/pub_link/Collateral/477-02.PDF.1
footprint ONSC-SOD-323-2-477-02_V (SOD, 2-Leads, Body 1.7x1.25mm)
pins: 1 K, 2 A

## MM3Z16VST1G
designator D?
Zener Voltage Regulator, 300 mW, Tight Tolerance Portfolio, 2-Pin SOD-323, Pb-Free, Tape and Reel; Manufacturer: On Semiconductor; PartNumber: MM3Z16VST1G; P Max (W): 0.3; DatasheetVersion: Rev. 21; PackageVersion: Rev. H, 03/2007; PackageReference: SOD-323-2-477-02; PackageDescription: 2-Pin SOD, Body 1.7 x 1.25 mm; Supplier 1: Digi-Key; Supplier Part Number 1: MM3Z16VST1GOSTR-ND; Supplier 2: Digi-Key; Supplier Part Number 2: MM3Z16VST1GOSCT-ND; Supplier 3: Digi-Key; Supplier Part Number 3: MM3Z16VST1GOSDKR-ND; Supplier 4: Newark; Supplier Part Number 4: 67H6865; Supplier 5: Mouser; Supplier Part Number 5: 863-MM3Z16VST1G; Packing: Tape and Reel; RoHS: Pb-Free; Mounting Technology: Surface Mount; ComponentLink1Description: Manufacturer URL; ComponentLink1URL: http://www.onsemi.com/; ComponentLink2Description: Datasheet; ComponentLink2URL: http://www.onsemi.cn/pub_link/Collateral/MM3Z2V4ST1-D.PDF; ComponentLink3Description: Package Specification; ComponentLink3URL: http://www.onsemi.com/pub_link/Collateral/477-02.PDF.1
footprint ONSC-SOD-323-2-477-02_V (SOD, 2-Leads, Body 1.7x1.25mm)
pins: 1 K, 2 A

## MM3Z16VT1G
designator D?
Zener Voltage Regulator, 300 mW, 2-Pin SOD-323, Pb-Free, Tape and Reel; Manufacturer: On Semiconductor; PartNumber: MM3Z16VT1G; P Max (W): 0.3; VZ Typ (V): 16.2; DatasheetVersion: Rev. 9; PackageVersion: Rev. H, 03/2007; PackageReference: SOD-323-2-477-02; PackageDescription: 2-Pin SOD, Body 1.7 x 1.25 mm; Supplier 1: Digi-Key; Supplier Part Number 1: MM3Z16VT1GOSTR-ND; Supplier 2: Digi-Key; Supplier Part Number 2: MM3Z16VT1GOSCT-ND; Supplier 3: Digi-Key; Supplier Part Number 3: MM3Z16VT1GOSDKR-ND; Supplier 4: Newark; Supplier Part Number 4: 98H0833; Supplier 5: Mouser; Supplier Part Number 5: 863-MM3Z16VT1G; Packing: Tape and Reel; RoHS: Pb-Free; Mounting Technology: Surface Mount; ComponentLink1Description: Manufacturer URL; ComponentLink1URL: http://www.onsemi.com/; ComponentLink2Description: Datasheet; ComponentLink2URL: http://www.onsemi.cn/pub_link/Collateral/MM3Z2V4T1-D.PDF; ComponentLink3Description: Package Specification; ComponentLink3URL: http://www.onsemi.com/pub_link/Collateral/477-02.PDF.1
footprint ONSC-SOD-323-2-477-02_V (SOD, 2-Leads, Body 1.7x1.25mm)
pins: 1 K, 2 A

## MM3Z18VST1G
designator D?
Zener Voltage Regulator, 300 mW, Tight Tolerance Portfolio, 2-Pin SOD-323, Pb-Free, Tape and Reel; Manufacturer: On Semiconductor; PartNumber: MM3Z18VST1G; P Max (W): 0.3; DatasheetVersion: Rev. 21; PackageVersion: Rev. H, 03/2007; PackageReference: SOD-323-2-477-02; PackageDescription: 2-Pin SOD, Body 1.7 x 1.25 mm; Supplier 1: Digi-Key; Supplier Part Number 1: MM3Z18VST1GOSTR-ND; Supplier 2: Digi-Key; Supplier Part Number 2: MM3Z18VST1GOSCT-ND; Supplier 3: Digi-Key; Supplier Part Number 3: MM3Z18VST1GOSDKR-ND; Supplier 4: Farnell; Supplier Part Number 4: 2317799; Supplier 5: Farnell; Supplier Part Number 5: 1861217; Supplier 6: Newark; Supplier Part Number 6: 09R9501; Supplier 7: Mouser; Supplier Part Number 7: 863-MM3Z18VST1G; Packing: Tape and Reel; RoHS: Pb-Free; Mounting Technology: Surface Mount; ComponentLink1Description: Manufacturer URL; ComponentLink1URL: http://www.onsemi.com/; ComponentLink2Description: Datasheet; ComponentLink2URL: http://www.onsemi.cn/pub_link/Collateral/MM3Z2V4ST1-D.PDF; ComponentLink3Description: Package Specification; ComponentLink3URL: http://www.onsemi.com/pub_link/Collateral/477-02.PDF.1
footprint ONSC-SOD-323-2-477-02_V (SOD, 2-Leads, Body 1.7x1.25mm)
pins: 1 K, 2 A

## MM3Z18VT1
designator D?
Zener Voltage Regulator, 300 mW, 2-Pin SOD-323, Tape and Reel; Manufacturer: On Semiconductor; PartNumber: MM3Z18VT1; P Max (W): 0.3; VZ Typ (V): 18; DatasheetVersion: Rev. 9; PackageVersion: Rev. H, 03/2007; PackageReference: SOD-323-2-477-02; PackageDescription: 2-Pin SOD, Body 1.7 x 1.25 mm; Supplier 1: Digi-Key; Supplier Part Number 1: MM3Z18VT1OS-ND; Packing: Tape and Reel; Mounting Technology: Surface Mount; ComponentLink1Description: Manufacturer URL; ComponentLink1URL: http://www.onsemi.com/; ComponentLink2Description: Datasheet; ComponentLink2URL: http://www.onsemi.cn/pub_link/Collateral/MM3Z2V4T1-D.PDF; ComponentLink3Description: Package Specification; ComponentLink3URL: http://www.onsemi.com/pub_link/Collateral/477-02.PDF.1
footprint ONSC-SOD-323-2-477-02_V (SOD, 2-Leads, Body 1.7x1.25mm)
pins: 1 K, 2 A

## MM3Z18VT1G
designator D?
Zener Voltage Regulator, 300 mW, 2-Pin SOD-323, Pb-Free, Tape and Reel; Manufacturer: On Semiconductor; PartNumber: MM3Z18VT1G; P Max (W): 0.3; VZ Typ (V): 18; DatasheetVersion: Rev. 9; PackageVersion: Rev. H, 03/2007; PackageReference: SOD-323-2-477-02; PackageDescription: 2-Pin SOD, Body 1.7 x 1.25 mm; Supplier 1: Digi-Key; Supplier Part Number 1: MM3Z18VT1GOSTR-ND; Supplier 2: Digi-Key; Supplier Part Number 2: MM3Z18VT1GOSCT-ND; Supplier 3: Digi-Key; Supplier Part Number 3: MM3Z18VT1GOSDKR-ND; Supplier 4: Farnell; Supplier Part Number 4: 1431193RL; Supplier 5: Farnell; Supplier Part Number 5: 1431193; Supplier 6: Farnell; Supplier Part Number 6: 2322450; Supplier 7: Newark; Supplier Part Number 7: 85W2825; Supplier 8: Newark; Supplier Part Number 8: 98H0834; Supplier 9: Mouser; Supplier Part Number 9: 863-MM3Z18VT1G; Packing: Tape and Reel; RoHS: Pb-Free; Mounting Technology: Surface Mount; ComponentLink1Description: Manufacturer URL; ComponentLink1URL: http://www.onsemi.com/; ComponentLink2Description: Datasheet; ComponentLink2URL: http://www.onsemi.cn/pub_link/Collateral/MM3Z2V4T1-D.PDF; ComponentLink3Description: Package Specification; ComponentLink3URL: http://www.onsemi.com/pub_link/Collateral/477-02.PDF.1
footprint ONSC-SOD-323-2-477-02_V (SOD, 2-Leads, Body 1.7x1.25mm)
pins: 1 K, 2 A

## MM3Z20VT1G
designator D?
Zener Voltage Regulator, 300 mW, 2-Pin SOD-323, Pb-Free, Tape and Reel; Manufacturer: On Semiconductor; PartNumber: MM3Z20VT1G; P Max (W): 0.3; VZ Typ (V): 20; DatasheetVersion: Rev. 9; PackageVersion: Rev. H, 03/2007; PackageReference: SOD-323-2-477-02; PackageDescription: 2-Pin SOD, Body 1.7 x 1.25 mm; Supplier 1: Digi-Key; Supplier Part Number 1: MM3Z20VT1GOSTR-ND; Supplier 2: Digi-Key; Supplier Part Number 2: MM3Z20VT1GOSCT-ND; Supplier 3: Digi-Key; Supplier Part Number 3: MM3Z20VT1GOSDKR-ND; Supplier 4: Newark; Supplier Part Number 4: 98H0835; Supplier 5: Mouser; Supplier Part Number 5: 863-MM3Z20VT1G; Packing: Tape and Reel; RoHS: Pb-Free; Mounting Technology: Surface Mount; ComponentLink1Description: Manufacturer URL; ComponentLink1URL: http://www.onsemi.com/; ComponentLink2Description: Datasheet; ComponentLink2URL: http://www.onsemi.cn/pub_link/Collateral/MM3Z2V4T1-D.PDF; ComponentLink3Description: Package Specification; ComponentLink3URL: http://www.onsemi.com/pub_link/Collateral/477-02.PDF.1
footprint ONSC-SOD-323-2-477-02_V (SOD, 2-Leads, Body 1.7x1.25mm)
pins: 1 K, 2 A

## MM3Z22VST1G
designator D?
Zener Voltage Regulator, 300 mW, Tight Tolerance Portfolio, 2-Pin SOD-323, Pb-Free, Tape and Reel; Manufacturer: On Semiconductor; PartNumber: MM3Z22VST1G; P Max (W): 0.3; DatasheetVersion: Rev. 21; PackageVersion: Rev. H, 03/2007; PackageReference: SOD-323-2-477-02; PackageDescription: 2-Pin SOD, Body 1.7 x 1.25 mm; Supplier 1: Digi-Key; Supplier Part Number 1: MM3Z22VST1G-ND; Supplier 2: Mouser; Supplier Part Number 2: 863-MM3Z22VST1G; Packing: Tape and Reel; RoHS: Pb-Free; Mounting Technology: Surface Mount; ComponentLink1Description: Manufacturer URL; ComponentLink1URL: http://www.onsemi.com/; ComponentLink2Description: Datasheet; ComponentLink2URL: http://www.onsemi.cn/pub_link/Collateral/MM3Z2V4ST1-D.PDF; ComponentLink3Description: Package Specification; ComponentLink3URL: http://www.onsemi.com/pub_link/Collateral/477-02.PDF.1
footprint ONSC-SOD-323-2-477-02_V (SOD, 2-Leads, Body 1.7x1.25mm)
pins: 1 K, 2 A

## MM3Z22VT1G
designator D?
Zener Voltage Regulator, 300 mW, 2-Pin SOD-323, Pb-Free, Tape and Reel; Manufacturer: On Semiconductor; PartNumber: MM3Z22VT1G; P Max (W): 0.3; VZ Typ (V): 22; DatasheetVersion: Rev. 9; PackageVersion: Rev. H, 03/2007; PackageReference: SOD-323-2-477-02; PackageDescription: 2-Pin SOD, Body 1.7 x 1.25 mm; Supplier 1: Digi-Key; Supplier Part Number 1: MM3Z22VT1GOS-ND; Supplier 2: Mouser; Supplier Part Number 2: 863-MM3Z22VT1G; Packing: Tape and Reel; RoHS: Pb-Free; Mounting Technology: Surface Mount; ComponentLink1Description: Manufacturer URL; ComponentLink1URL: http://www.onsemi.com/; ComponentLink2Description: Datasheet; ComponentLink2URL: http://www.onsemi.cn/pub_link/Collateral/MM3Z2V4T1-D.PDF; ComponentLink3Description: Package Specification; ComponentLink3URL: http://www.onsemi.com/pub_link/Collateral/477-02.PDF.1
footprint ONSC-SOD-323-2-477-02_V (SOD, 2-Leads, Body 1.7x1.25mm)
pins: 1 K, 2 A

## MM3Z24VST1G
designator D?
Zener Voltage Regulator, 300 mW, Tight Tolerance Portfolio, 2-Pin SOD-323, Pb-Free, Tape and Reel; Manufacturer: On Semiconductor; PartNumber: MM3Z24VST1G; P Max (W): 0.3; DatasheetVersion: Rev. 21; PackageVersion: Rev. H, 03/2007; PackageReference: SOD-323-2-477-02; PackageDescription: 2-Pin SOD, Body 1.7 x 1.25 mm; Supplier 1: Digi-Key; Supplier Part Number 1: MM3Z24VST1G-ND; Supplier 2: Mouser; Supplier Part Number 2: 863-MM3Z24VST1G; Packing: Tape and Reel; RoHS: Pb-Free; Mounting Technology: Surface Mount; ComponentLink1Description: Manufacturer URL; ComponentLink1URL: http://www.onsemi.com/; ComponentLink2Description: Datasheet; ComponentLink2URL: http://www.onsemi.cn/pub_link/Collateral/MM3Z2V4ST1-D.PDF; ComponentLink3Description: Package Specification; ComponentLink3URL: http://www.onsemi.com/pub_link/Collateral/477-02.PDF.1
footprint ONSC-SOD-323-2-477-02_V (SOD, 2-Leads, Body 1.7x1.25mm)
pins: 1 K, 2 A